# Altium footprint library HDR10_F.PcbLib: 1 footprints
Each footprint in its own frame and in the unit in brackets; x right, y up, seen from the top. Pads: shape width x height; smd on the part's side, far side on the other; paste and mask are expansions set on the pad; w line width, h text height; cw(c..) or ccw(c..) is an arc to the next point about the centre after c.
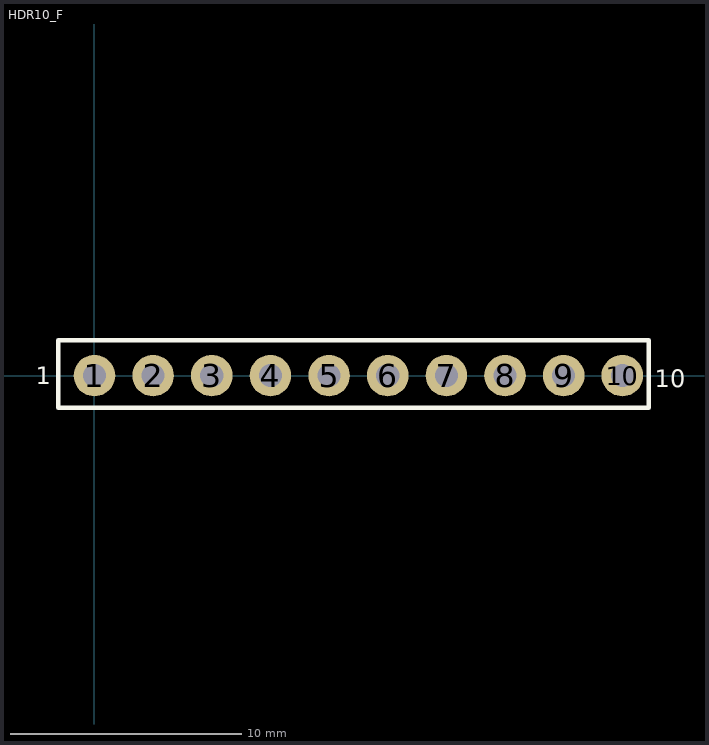
[diagram p0: the footprint, top view; thin cyan lines are the x and y axes]

## HDR10_F [mm]
pads (10):
  round 1.8 hole 1: 1(0,0) 2(2.54,0) 3(5.08,0) 4(7.62,0) 5(10.16,0) 6(12.7,0) 7(15.24,0) 8(17.78,0) 9(20.32,0) 10(22.86,0)
Top Overlay:
  lines w0.2: -1.561,-1.388 -1.561,1.533 ; -1.524,-1.397 24.003,-1.397 24.003,1.524 -1.524,1.524
  text "1" at -2.54,-0.381 h0.76
  text "10" at 24.257,-0.508 h0.76
3D body "Pin Header 1x10 TH Pitch 2.54mm.stp": height 9.5, standoff -3.2, extent -1.397,-1.397 24.003,1.143